# EAGLE library part USB-MINI_2486_01 (library con-usb)
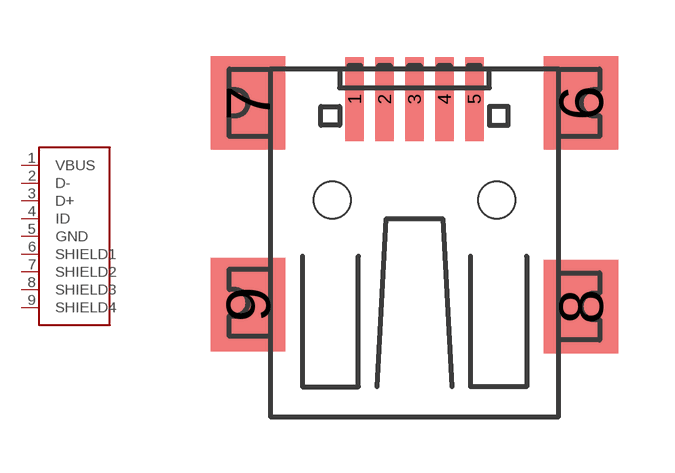
[diagram p0: symbol with the pads of USB-MINI-2486_01; footprint USB-MINI-2486_01]

Designator prefix -

## USB-MINI_2486_01  [USB-MINI-2486_01]
1  VBUS
2  D-
3  D+
4  ID
5  GND
6  SHIELD1
7  SHIELD2
8  SHIELD3
9  SHIELD4

## Footprint USB-MINI-2486_01 (pad centres in mm)
smd 0.5 x 2.25: 1 -1.6,2.7; 2 -0.8,2.7; 3 0,2.7; 4 0.8,2.7; 5 1.6,2.7
smd 2 x 2.5: 6 4.45,2.6; 7 -4.45,2.6; 8 4.45,-2.85; 9 -4.45,-2.8
hole 1 at 2.2,0
hole 1 at -2.2,0